# Altium schematic symbol library MKE02Z.Schlib: 1 symbol
Pins are listed as number, name and electrical type; pins without a type are passive.

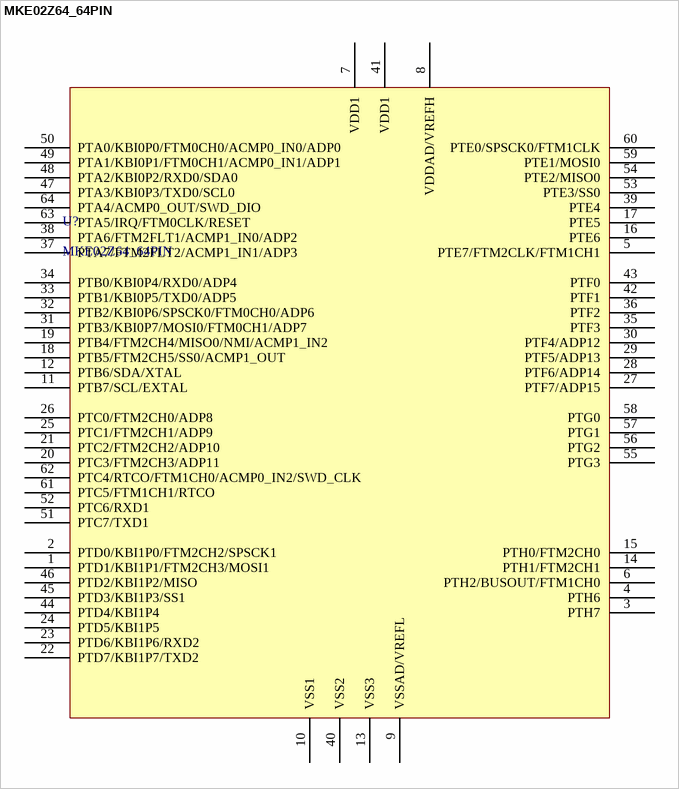
[diagram p0: symbol MKE02Z64_64PIN]

## MKE02Z64_64PIN
designator U?
pins: 1 PTD1/KBI1P1/FTM2CH3/MOSI1, 2 PTD0/KBI1P0/FTM2CH2/SPSCK1, 3 PTH7, 4 PTH6, 5 PTE7/FTM2CLK/FTM1CH1, 6 PTH2/BUSOUT/FTM1CH0, 7 VDD1, 8 VDDAD/VREFH, 9 VSSAD/VREFL, 10 VSS1, 11 PTB7/SCL/EXTAL, 12 PTB6/SDA/XTAL, 13 VSS3, 14 PTH1/FTM2CH1, 15 PTH0/FTM2CH0, 16 PTE6, 17 PTE5, 18 PTB5/FTM2CH5/SS0/ACMP1_OUT, 19 PTB4/FTM2CH4/MISO0/NMI/ACMP1_IN2, 20 PTC3/FTM2CH3/ADP11, 21 PTC2/FTM2CH2/ADP10, 22 PTD7/KBI1P7/TXD2, 23 PTD6/KBI1P6/RXD2, 24 PTD5/KBI1P5, 25 PTC1/FTM2CH1/ADP9, 26 PTC0/FTM2CH0/ADP8, 27 PTF7/ADP15, 28 PTF6/ADP14, 29 PTF5/ADP13, 30 PTF4/ADP12, 31 PTB3/KBI0P7/MOSI0/FTM0CH1/ADP7, 32 PTB2/KBI0P6/SPSCK0/FTM0CH0/ADP6, 33 PTB1/KBI0P5/TXD0/ADP5, 34 PTB0/KBI0P4/RXD0/ADP4, 35 PTF3, 36 PTF2, 37 PTA7/FTM2FLT2/ACMP1_IN1/ADP3, 38 PTA6/FTM2FLT1/ACMP1_IN0/ADP2, 39 PTE4, 40 VSS2, 41 VDD1, 42 PTF1, 43 PTF0, 44 PTD4/KBI1P4, 45 PTD3/KBI1P3/SS1, 46 PTD2/KBI1P2/MISO, 47 PTA3/KBI0P3/TXD0/SCL0, 48 PTA2/KBI0P2/RXD0/SDA0, 49 PTA1/KBI0P1/FTM0CH1/ACMP0_IN1/ADP1, 50 PTA0/KBI0P0/FTM0CH0/ACMP0_IN0/ADP0, 51 PTC7/TXD1, 52 PTC6/RXD1, 53 PTE3/SS0, 54 PTE2/MISO0, 55 PTG3, 56 PTG2, 57 PTG1, 58 PTG0, 59 PTE1/MOSI0, 60 PTE0/SPSCK0/FTM1CLK, 61 PTC5/FTM1CH1/RTCO, 62 PTC4/RTCO/FTM1CH0/ACMP0_IN2/SWD_CLK, 63 PTA5/IRQ/FTM0CLK/RESET, 64 PTA4/ACMP0_OUT/SWD_DIO